# Altium schematic symbol library CUD7GF1B.SchLib: 1 symbol
Pins are listed as number, name and electrical type; pins without a type are passive.

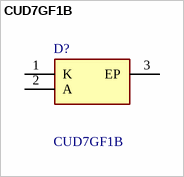
[diagram p0: symbol CUD7GF1B]

## CUD7GF1B
designator D?
Deep ultraviolet light emitting diode with peak emission wavelengths from 270nm to 280nm; Manufacturer_Name: SEOUL VIOSYS; Manufacturer_Part_Number: CUD7GF1B; Mouser Part Number: *; Mouser Price/Stock: *; Arrow Part Number: *; Arrow Price/Stock: *; Mouser Testing Part Number: *; Mouser Testing Price/Stock: *; Datasheet Link: http://www.s-et.com/upload2/CUD7GF1B_R2.0.pdf
footprint CUD7GF1B
pins: 1 K, 2 A, 3 EP